# EAGLE library part AXN320038S (library SMORSE_Chao)
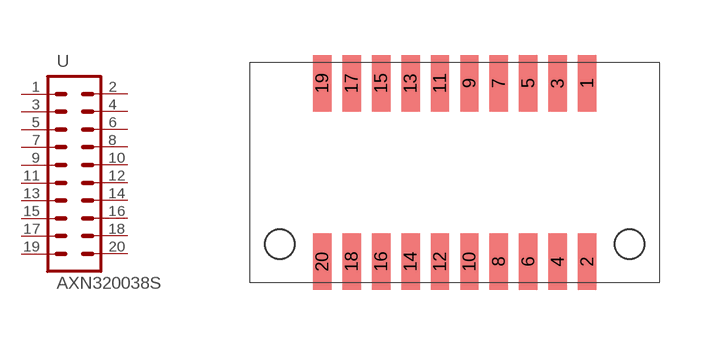
[diagram p17: symbol with the pads of AXN320038S; footprint AXN320038S]

Designator prefix -

## AXN320038S  [AXN320038S]
1  1  pas
2  2  pas
3  3  pas
4  4  pas
5  5  pas
6  6  pas
7  7  pas
8  8  pas
9  9  pas
10  10  pas
11  11  pas
12  12  pas
13  13  pas
14  14  pas
15  15  pas
16  16  pas
17  17  pas
18  18  pas
19  19  pas
20  20  pas

## Footprint AXN320038S (pad centres in mm)
smd 0.5 x 1.53: 1 3.6,2.425; 2 3.6,-2.425; 3 2.8,2.425; 4 2.8,-2.425; 5 2,2.425; 6 2,-2.425; 7 1.2,2.425; 8 1.2,-2.425; 9 0.4,2.425; 10 0.4,-2.425; 11 -0.4,2.425; 12 -0.4,-2.425; 13 -1.2,2.425; 14 -1.2,-2.425; 15 -2,2.425; 16 -2,-2.425; 17 -2.8,2.425; 18 -2.8,-2.425; 19 -3.6,2.425; 20 -3.6,-2.425
hole 0.8 at 4.75,-1.95
hole 0.8 at -4.75,-1.95